# EAGLE library part ESP32-CAM (library common components)
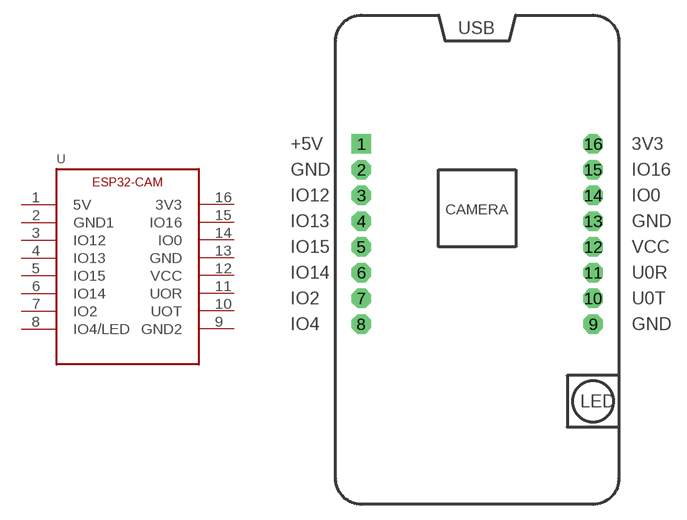
[diagram p10: symbol with the pads of ESP32-CAM; footprint ESP32-CAM]

Designator prefix U

## ESP32-CAM  [ESP32-CAM]
1  5V
2  GND1
3  IO12
4  IO13
5  IO15
6  IO14
7  IO2
8  IO4/LED
9  GND2
10  UOT
11  UOR
12  VCC
13  GND
14  IO0
15  IO16
16  3V3

## Footprint ESP32-CAM (pad centres in mm)
drill 1 pad 1.93 square: 1 0,0
drill 1 pad 1.93 octagon: 2 0,-2.54; 3 0,-5.08; 4 0,-7.62; 5 0,-10.16; 6 0,-12.7; 7 0,-15.24; 8 0,-17.78; 9 22.86,-17.78; 10 22.86,-15.24; 11 22.86,-12.7; 12 22.86,-10.16; 13 22.86,-7.62; 14 22.86,-5.08; 15 22.86,-2.54; 16 22.86,0